# Altium schematic symbol library IOBoard.SCHLIB: 117 symbols (part 2 of 2)
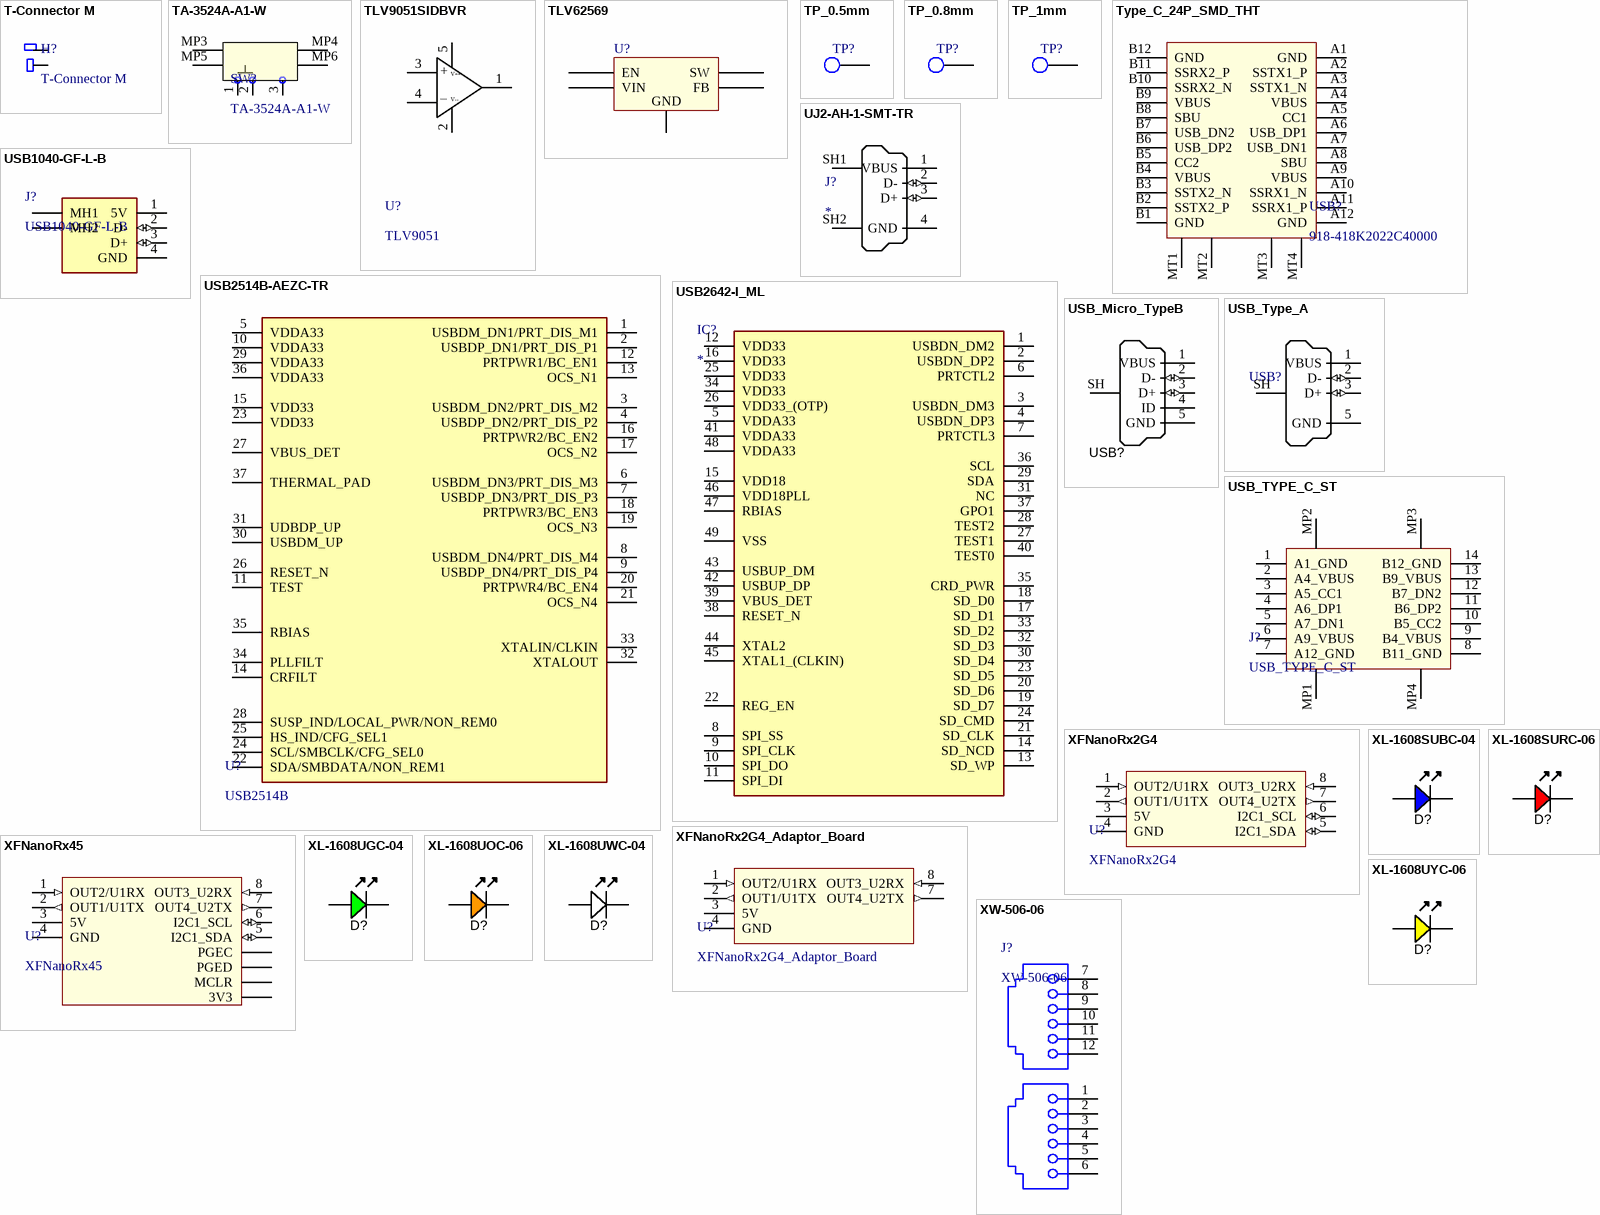
[diagram p5: symbols T-Connector M to XW-506-06]

## XFNanoRx2G4
designator U?
Baudrate Translator
footprint XFNanoRx2G4 (baudrate translater)
pins: 1 OUT2/U1RX (in), 2 OUT1/U1TX (out), 3 5V (power), 4 GND (power), 5 I2C1_SDA (io), 6 I2C1_SCL (io), 7 OUT4_U2TX (out), 8 OUT3_U2RX (in)

## XFNanoRx2G4_Adaptor_Board
designator U?
Buadrate translator Adaptor Board
footprint XFNanoRx2G4_Adaptor (baudrate translater)
pins: 1 OUT2/U1RX (in), 2 OUT1/U1TX (out), 3 5V (power), 4 GND (power), 7 OUT4_U2TX (out), 8 OUT3_U2RX (in)

## XFNanoRx45
designator U?
Baudrate Translator
footprint XFNanoRx45 (baudrate translater)
pins: 1 OUT2/U1RX (in), 2 OUT1/U1TX (out), 3 5V (power), 4 GND (power), 5 I2C1_SDA (io), 6 I2C1_SCL (io), 7 OUT4_U2TX (out), 8 OUT3_U2RX (in), MCLR, PGEC, PGED, VDD 3V3

## XL-1608SUBC-04
designator D?, comment BLUE  (value not drawn)
LED 0603 BLUE; Manufacturer 1: XINGLIGHT; Manufacturer Part Number 1: XL-1608SUBC-04; Ratings: 470nm; Color: Blue
footprint LED-0603-BLUE
pins: A, K

## XL-1608SURC-06
designator D?, comment RED  (value not drawn)
LED 0603 RED; Manufacturer 1: XINGLIGHT; Manufacturer Part Number 1: XL-1608SURC-06; Ratings: 620 nm; Color: Red
footprint LED-0603-RED
pins: A, K

## XL-1608UGC-04
designator D?, comment GRN  (value not drawn)
LED 0603 GREEN; Manufacturer 1: XINGLIGHT; Manufacturer Part Number 1: XL-1608UGC-04; Ratings: 530mm; Color: Green
footprint LED-0603-GREEN
pins: A, K

## XL-1608UOC-06
designator D?, comment ORG  (value not drawn)
LED 0603 ORANGE; Manufacturer 1: XINGLIGHT; Manufacturer Part Number 1: XL-1608UOC-06; Ratings: 603 nm; Color: Orange
footprint LED-0603-AMBER
pins: A, K

## XL-1608UWC-04
designator D?, comment WHT  (value not drawn)
LED 0603 WHITE; Manufacturer 1: XINGLIGHT; Manufacturer Part Number 1: XL-1608UWC-04; Color: white
footprint LED-0603-WHITE
pins: A, K

## XL-1608UYC-06
designator D?, comment YLW  (value not drawn)
LED 0603 YELLOW; Manufacturer 1: XINGLIGHT; Manufacturer Part Number 1: XL-1608UYC-06; Ratings: 590nm; Color: Yellow
footprint LED-0603-YELLOW
pins: A, K

## XW-506-06
designator J?
Dual RJ11 modular jack header
footprint XW-506-06 (RJ11 dual port)
pins: 1, 2, 3, 4, 5, 6, 7, 8, 9, 10, 11, 12